# Altium integrated library Renesas Standard Linear.IntLib: 102 symbols (part 3 of 3)
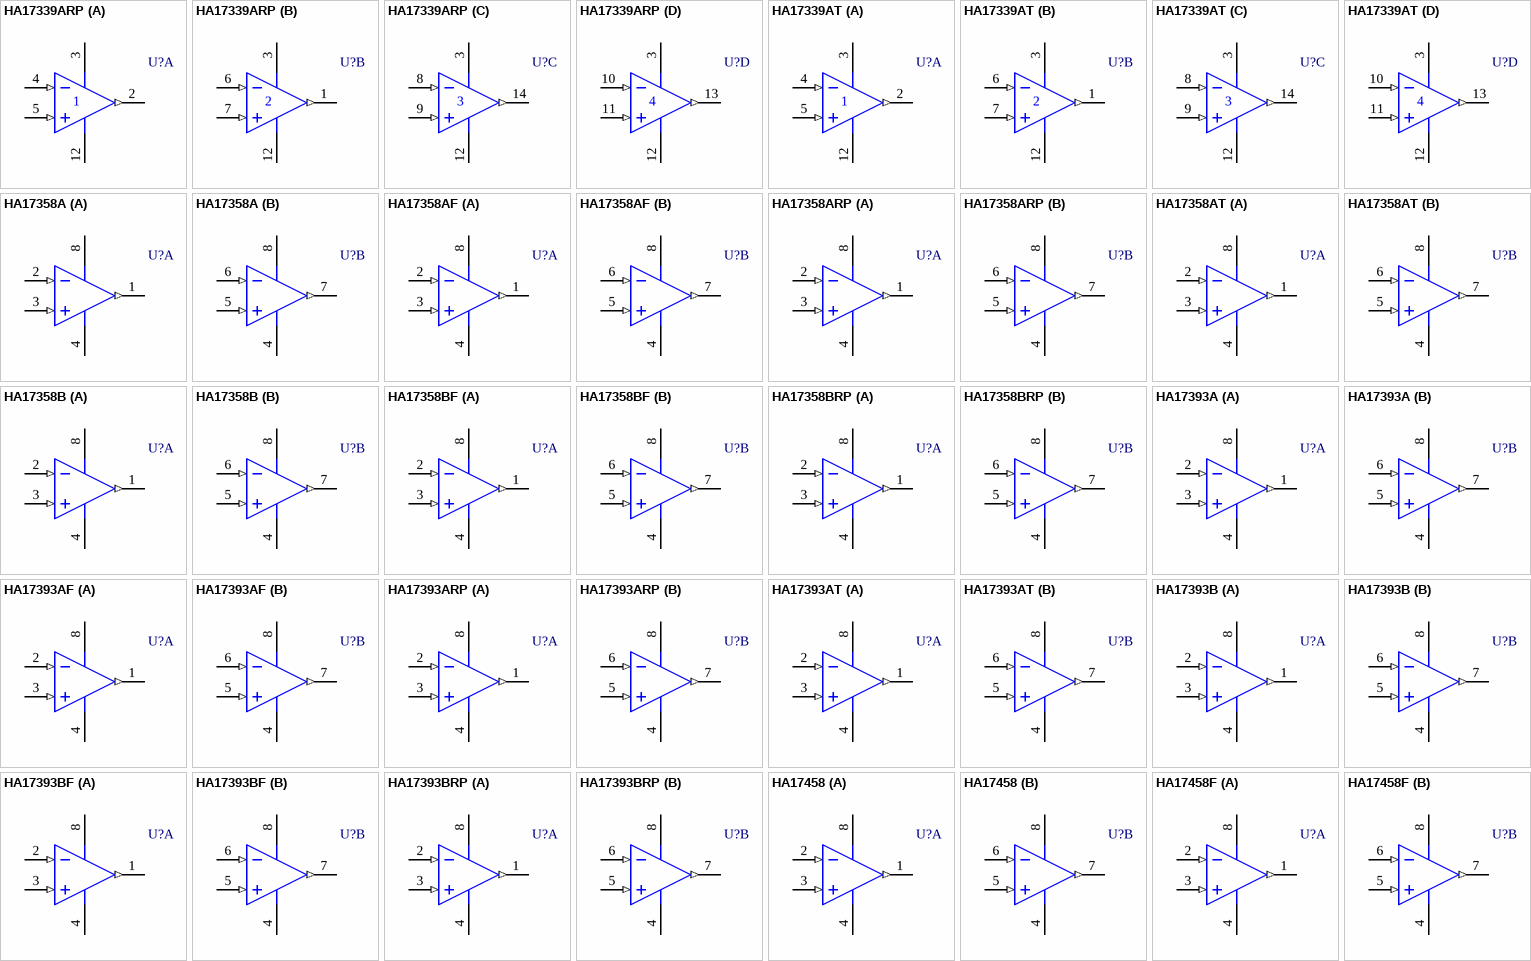
[diagram p7: symbols HA17339ARP to HA17458F]

## HA17458F
designator U?
Dual Bipolar Operational Amplifiers, Standard, VDD (+/-18V), 20 to +75°C, 8-Pin SOP; Published: 5-Feb-2010; DatasheetVersion: Rev.1.00, Jun-2005; PackageVersion: Sep-2005; PackageReference: PRSP0008DE-B; Publisher: Altium Limited; PackageDescription: 8-Pin Plastic Small Outline Package 1.27 mm Pitch; Code_JEITA: P-SOP8-4.4x4.85-1.27; ComponentLink1Description: Manufacturer Link; ComponentLink1URL: http://sg.renesas.com/fmwk.jsp?cnt=standard_linear_landing.jsp&fp=/products/standard_ic/general_purpose_linear/standard_linear; ComponentLink2Description: Datasheet; ComponentLink2URL: http://documentation.renesas.com/eng/products/linear/rej03d0680_ha17458.pdf; ComponentLink3Description: Packaging Specification; ComponentLink3URL: http://sg.renesas.com/media/products/common_info/package/pdf/ic/code/prsp0008de_b.pdf
footprint PRSP0008DE-B_N (SOP, 8-Leads, Body 4.85x4.4mm, Pitch 1.27mm, IPC Medium Density)
footprint PRSP0008DE-B_L (SOP, 8-Leads, Body 4.85x4.4mm, Pitch 1.27mm, IPC High Density)
footprint PRSP0008DE-B_M (SOP, 8-Leads, Body 4.85x4.4mm, Pitch 1.27mm, IPC Low Density)
pins on every part: 4 VEE (power), 8 VCC (power)
part A pins: 1 OUT (out), 2 IN- (in), 3 IN+ (in)
part B pins: 5 IN+ (in), 6 IN- (in), 7 OUT (out)

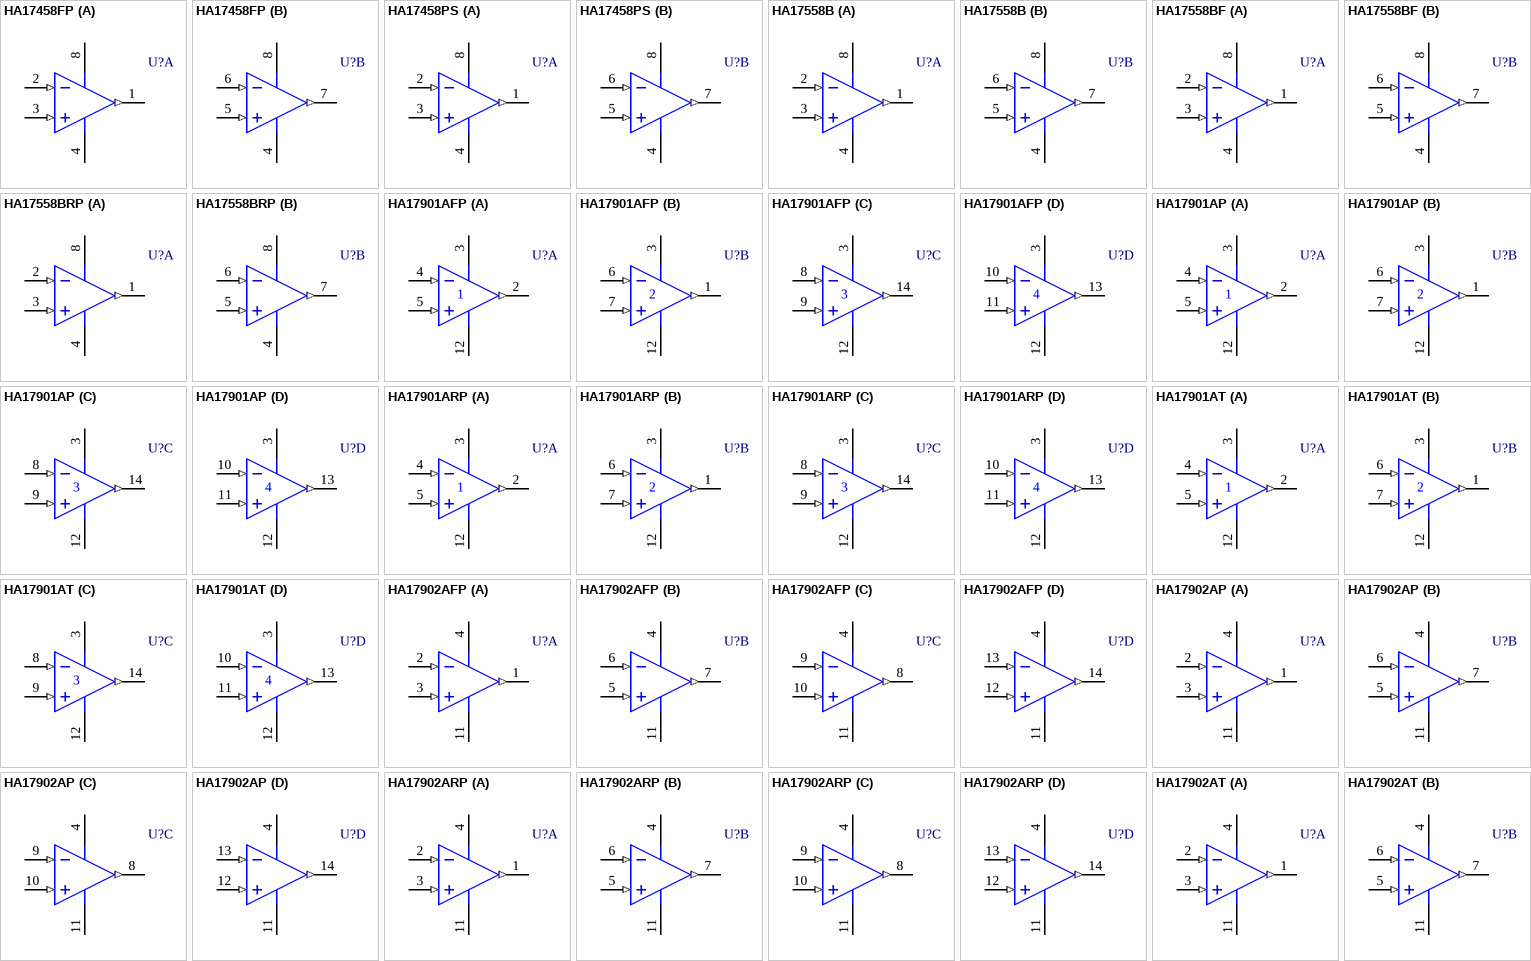
[diagram p4: symbols HA17458FP to HA17902AT]

## HA17458FP
designator U?
Dual Bipolar Operational Amplifiers, Standard, VDD (+/-18V), 20 to +75°C, 8-Pin SOP; Published: 5-Feb-2010; DatasheetVersion: Rev.1.00, Jun-2005; PackageVersion: Sep-2005; PackageReference: PRSP0008DE-B; Publisher: Altium Limited; PackageDescription: 8-Pin Plastic Small Outline Package 1.27 mm Pitch; Code_JEITA: P-SOP8-4.4x4.85-1.27; ComponentLink1Description: Manufacturer Link; ComponentLink1URL: http://sg.renesas.com/fmwk.jsp?cnt=standard_linear_landing.jsp&fp=/products/standard_ic/general_purpose_linear/standard_linear; ComponentLink2Description: Datasheet; ComponentLink2URL: http://documentation.renesas.com/eng/products/linear/rej03d0680_ha17458.pdf; ComponentLink3Description: Packaging Specification; ComponentLink3URL: http://sg.renesas.com/media/products/common_info/package/pdf/ic/code/prsp0008de_b.pdf
footprint PRSP0008DE-B_N (SOP, 8-Leads, Body 4.85x4.4mm, Pitch 1.27mm, IPC Medium Density)
footprint PRSP0008DE-B_L (SOP, 8-Leads, Body 4.85x4.4mm, Pitch 1.27mm, IPC High Density)
footprint PRSP0008DE-B_M (SOP, 8-Leads, Body 4.85x4.4mm, Pitch 1.27mm, IPC Low Density)
pins on every part: 4 VEE (power), 8 VCC (power)
part A pins: 1 OUT (out), 2 IN- (in), 3 IN+ (in)
part B pins: 5 IN+ (in), 6 IN- (in), 7 OUT (out)

## HA17458PS
designator U?
Dual Bipolar Operational Amplifiers, Standard, VDD (+/-18V), 20 to +75°C, 8-Pin DIP; Published: 5-Feb-2010; DatasheetVersion: Rev.1.00, Jun-2005; PackageVersion: Sep-2005; PackageReference: PRDP0008AF-B; Publisher: Altium Limited; PackageDescription: 8-Pin Plastic DIP, 9.6 x 6.3 mm Body, 7.62 mm Row Spacing, Pitch 2.54 mm; Code_JEITA: P-DIP8-6.3x9.6-2.54; ComponentLink1Description: Manufacturer Link; ComponentLink1URL: http://sg.renesas.com/fmwk.jsp?cnt=standard_linear_landing.jsp&fp=/products/standard_ic/general_purpose_linear/standard_linear; ComponentLink2Description: Datasheet; ComponentLink2URL: http://documentation.renesas.com/eng/products/linear/rej03d0680_ha17458.pdf; ComponentLink3Description: Packaging Specification; ComponentLink3URL: http://sg.renesas.com/media/products/common_info/package/pdf/ic/code/prdp0008af_b.pdf
footprint PRDP0008AF-B (DIP, 8-Leads, Row Spacing 7.62mm, Pitch 2.54mm, Body 9.6x6.3mm)
pins on every part: 4 VEE (power), 8 VCC (power)
part A pins: 1 OUT (out), 2 IN- (in), 3 IN+ (in)
part B pins: 5 IN+ (in), 6 IN- (in), 7 OUT (out)

## HA17558B
designator U?
Dual Bipolar Operational Amplifiers, Low noise, VDD (+/-18V), 40 to +85°C, 8-Pin DIP; Published: 5-Feb-2010; DatasheetVersion: Rev.2.00, Dec-2008; PackageVersion: Sep-2005; PackageReference: PRDP0008AF-B; Publisher: Altium Limited; PackageDescription: 8-Pin Plastic DIP, 9.6 x 6.3 mm Body, 7.62 mm Row Spacing, Pitch 2.54 mm; Code_JEITA: P-DIP8-6.3x9.6-2.54; ComponentLink1Description: Manufacturer Link; ComponentLink1URL: http://sg.renesas.com/fmwk.jsp?cnt=standard_linear_landing.jsp&fp=/products/standard_ic/general_purpose_linear/standard_linear; ComponentLink2Description: Datasheet; ComponentLink2URL: http://documentation.renesas.com/eng/products/linear/rea03d0003_ha17558bds.pdf; ComponentLink3Description: Packaging Specification; ComponentLink3URL: http://sg.renesas.com/media/products/common_info/package/pdf/ic/code/prdp0008af_b.pdf
footprint PRDP0008AF-B (DIP, 8-Leads, Row Spacing 7.62mm, Pitch 2.54mm, Body 9.6x6.3mm)
pins on every part: 4 VEE (power), 8 VCC (power)
part A pins: 1 OUT (out), 2 IN- (in), 3 IN+ (in)
part B pins: 5 IN+ (in), 6 IN- (in), 7 OUT (out)

## HA17558BF
designator U?
Dual Bipolar Operational Amplifiers, Low noise, VDD (+/-18V), 40 to +85°C, 8-Pin SOP; Published: 5-Feb-2010; DatasheetVersion: Rev.2.00, Dec-2008; PackageVersion: Sep-2005; PackageReference: PRSP0008DE-B; Publisher: Altium Limited; PackageDescription: 8-Pin Plastic Small Outline Package 1.27 mm Pitch; Code_JEITA: P-SOP8-4.4x4.85-1.27; ComponentLink1Description: Manufacturer Link; ComponentLink1URL: http://sg.renesas.com/fmwk.jsp?cnt=standard_linear_landing.jsp&fp=/products/standard_ic/general_purpose_linear/standard_linear; ComponentLink2Description: Datasheet; ComponentLink2URL: http://documentation.renesas.com/eng/products/linear/rea03d0003_ha17558bds.pdf; ComponentLink3Description: Packaging Specification; ComponentLink3URL: http://sg.renesas.com/media/products/common_info/package/pdf/ic/code/prsp0008de_b.pdf
footprint PRSP0008DE-B_N (SOP, 8-Leads, Body 4.85x4.4mm, Pitch 1.27mm, IPC Medium Density)
footprint PRSP0008DE-B_L (SOP, 8-Leads, Body 4.85x4.4mm, Pitch 1.27mm, IPC High Density)
footprint PRSP0008DE-B_M (SOP, 8-Leads, Body 4.85x4.4mm, Pitch 1.27mm, IPC Low Density)
pins on every part: 4 VEE (power), 8 VCC (power)
part A pins: 1 OUT (out), 2 IN- (in), 3 IN+ (in)
part B pins: 5 IN+ (in), 6 IN- (in), 7 OUT (out)

## HA17558BRP
designator U?
Dual Bipolar Operational Amplifiers, Low noise, VDD (+/-18V), 40 to +85°C, 8-Pin SOP; Published: 5-Feb-2010; DatasheetVersion: Rev.2.00, Dec-2008; PackageVersion: Sep-2005; PackageReference: PRSP0008DD-C; Publisher: Altium Limited; PackageDescription: 8-Pin Plastic Small Outline Integrated Circuit 1.27 mm Pitch; Code_JEITA: P-SOP8-3.95x4.9-1.27; Code_IPC: SOIC127P600-8; ComponentLink1Description: Manufacturer Link; ComponentLink1URL: http://sg.renesas.com/fmwk.jsp?cnt=standard_linear_landing.jsp&fp=/products/standard_ic/general_purpose_linear/standard_linear; ComponentLink2Description: Datasheet; ComponentLink2URL: http://documentation.renesas.com/eng/products/linear/rea03d0003_ha17558bds.pdf; ComponentLink3Description: Packaging Specification; ComponentLink3URL: http://sg.renesas.com/media/products/common_info/package/pdf/ic/code/prsp0008dd_c.pdf
footprint PRSP0008DD-C_N (SOIC, 8-Leads, Body 4.9x3.95mm, Pitch 1.27mm, IPC Medium Density)
footprint PRSP0008DD-C_L (SOIC, 8-Leads, Body 4.9x3.95mm, Pitch 1.27mm, IPC High Density)
footprint PRSP0008DD-C_M (SOIC, 8-Leads, Body 4.9x3.95mm, Pitch 1.27mm, IPC Low Density)
pins on every part: 4 VEE (power), 8 VCC (power)
part A pins: 1 OUT (out), 2 IN- (in), 3 IN+ (in)
part B pins: 5 IN+ (in), 6 IN- (in), 7 OUT (out)

## HA17901AFP
designator U?
Quad Bipolar Voltage Comparator, RF noise improved, -40 to +85°C, 14-Pin SOP; Published: 5-Feb-2010; DatasheetVersion: Rev.1.00, Mar-2006; PackageVersion: Sep-2005; PackageReference: PRSP0014DF-B; Publisher: Altium Limited; PackageDescription: 14-Pin Plastic Small Outline Package, 10.06 x 5.5 mm Body, 1.27 mm Pitch; Code_JEITA: P-SOP14-5.5x10.06-1.27; ComponentLink1Description: Manufacturer Link; ComponentLink1URL: http://sg.renesas.com/fmwk.jsp?cnt=standard_linear_landing.jsp&fp=/products/standard_ic/general_purpose_linear/standard_linear; ComponentLink2Description: Datasheet; ComponentLink2URL: http://documentation.renesas.com/eng/products/linear/rej03d0806_ha17901ads.pdf; ComponentLink3Description: Packaging Specification; ComponentLink3URL: http://sg.renesas.com/media/products/common_info/package/pdf/ic/code/prsp0014df_b.pdf
footprint PRSP0014DF-B_N (SOP, 14-Leads, Body 10.06x5.5mm, Pitch 1.27mm, IPC Medium Density)
footprint PRSP0014DF-B_L (SOP, 14-Leads, Body 10.06x5.5mm, Pitch 1.27mm, IPC High Density)
footprint PRSP0014DF-B_M (SOP, 14-Leads, Body 10.06x5.5mm, Pitch 1.27mm, IPC Low Density)
pins on every part: 3 VCC (power), 12 GND (power)
part A pins: 2 OUT (out), 4 IN- (in), 5 IN+ (in)
part B pins: 1 OUT (out), 6 IN- (in), 7 IN+ (in)
part C pins: 8 IN- (in), 9 IN+ (in), 14 OUT (out)
part D pins: 10 IN- (in), 11 IN+ (in), 13 OUT (out)

## HA17901AP
designator U?
Quad Bipolar Voltage Comparator, RF noise improved, -40 to +85°C, 14-Pin DIP; Published: 5-Feb-2010; DatasheetVersion: Rev.1.00, Mar-2006; PackageVersion: Sep-2005; PackageReference: PRDP0014AB-B; Publisher: Altium Limited; PackageDescription: 14-Pin Plastic DIP, 19.2 x 6.3 mm Body, 7.62 mm Row Spacing, Pitch 2.54 mm; Code_JEITA: P-DIP14-6.3x19.2-2.54; ComponentLink1Description: Manufacturer Link; ComponentLink1URL: http://sg.renesas.com/fmwk.jsp?cnt=standard_linear_landing.jsp&fp=/products/standard_ic/general_purpose_linear/standard_linear; ComponentLink2Description: Datasheet; ComponentLink2URL: http://documentation.renesas.com/eng/products/linear/rej03d0806_ha17901ads.pdf; ComponentLink3Description: Packaging Specification; ComponentLink3URL: http://sg.renesas.com/media/products/common_info/package/pdf/ic/code/prdp0014ab_b.pdf
footprint PRDP0014AB-B (DIP, 14-Leads, Row Spacing 7.62mm, Pitch 2.54mm, Body 19.2x6.3mm)
pins on every part: 3 VCC (power), 12 GND (power)
part A pins: 2 OUT (out), 4 IN- (in), 5 IN+ (in)
part B pins: 1 OUT (out), 6 IN- (in), 7 IN+ (in)
part C pins: 8 IN- (in), 9 IN+ (in), 14 OUT (out)
part D pins: 10 IN- (in), 11 IN+ (in), 13 OUT (out)

## HA17901ARP
designator U?
Quad Bipolar Voltage Comparator, RF noise improved, -40 to +85°C, 14-Pin SOP; Published: 5-Feb-2010; DatasheetVersion: Rev.1.00, Mar-2006; PackageVersion: Sep-2005; PackageReference: PRSP0014DE-A; Publisher: Altium Limited; PackageDescription: 14-Pin Plastic Small Outline Integrated Circuit 8.65 x 3.95 mm Body, 1.27 mm Pitch; Code_JEITA: P-SOP14-3.95x8.65-1.27; ComponentLink1Description: Manufacturer Link; ComponentLink1URL: http://sg.renesas.com/fmwk.jsp?cnt=standard_linear_landing.jsp&fp=/products/standard_ic/general_purpose_linear/standard_linear; ComponentLink2Description: Datasheet; ComponentLink2URL: http://documentation.renesas.com/eng/products/linear/rej03d0806_ha17901ads.pdf; ComponentLink3Description: Packaging Specification; ComponentLink3URL: http://sg.renesas.com/media/products/common_info/package/pdf/ic/code/prsp0014de_a.pdf
footprint PRSP0014DE-A_N (SOIC, 14-Leads, Body 8.65x3.95mm, Pitch 1.27mm, IPC Medium Density)
footprint PRSP0014DE-A_L (SOIC, 14-Leads, Body 8.65x3.95mm, Pitch 1.27mm, IPC High Density)
footprint PRSP0014DE-A_M (SOIC, 14-Leads, Body 8.65x3.95mm, Pitch 1.27mm, IPC Low Density)
pins on every part: 3 VCC (power), 12 GND (power)
part A pins: 2 OUT (out), 4 IN- (in), 5 IN+ (in)
part B pins: 1 OUT (out), 6 IN- (in), 7 IN+ (in)
part C pins: 8 IN- (in), 9 IN+ (in), 14 OUT (out)
part D pins: 10 IN- (in), 11 IN+ (in), 13 OUT (out)

## HA17901AT
designator U?
Quad Bipolar Voltage Comparator, RF noise improved, -40 to +85°C, 14-Pin TSSOP; Published: 5-Feb-2010; DatasheetVersion: Rev.1.00, Mar-2006; PackageVersion: Sep-2005; PackageReference: PTSP0014JA-B; Publisher: Altium Limited; PackageDescription: 14-Pin Plastic Thin Small Outline Package 0.65 mm Pitch; Code_JEITA: P-TSSOP14-4.4x5-0.65; ComponentLink1Description: Manufacturer Link; ComponentLink1URL: http://sg.renesas.com/fmwk.jsp?cnt=standard_linear_landing.jsp&fp=/products/standard_ic/general_purpose_linear/standard_linear; ComponentLink2Description: Datasheet; ComponentLink2URL: http://documentation.renesas.com/eng/products/linear/rej03d0806_ha17901ads.pdf; ComponentLink3Description: Packaging Specification; ComponentLink3URL: http://sg.renesas.com/media/products/common_info/package/pdf/ic/code/ptsp0014ja_b.pdf
footprint PTSP0014JA-B_N (TSOP, 14-Leads, Body 5x4.4mm, Pitch 0.65mm, IPC Medium Density)
footprint PTSP0014JA-B_L (TSOP, 14-Leads, Body 5x4.4mm, Pitch 0.65mm, IPC High Density)
footprint PTSP0014JA-B_M (TSOP, 14-Leads, Body 5x4.4mm, Pitch 0.65mm, IPC Low Density)
pins on every part: 3 VCC (power), 12 GND (power)
part A pins: 2 OUT (out), 4 IN- (in), 5 IN+ (in)
part B pins: 1 OUT (out), 6 IN- (in), 7 IN+ (in)
part C pins: 8 IN- (in), 9 IN+ (in), 14 OUT (out)
part D pins: 10 IN- (in), 11 IN+ (in), 13 OUT (out)

## HA17902AFP
designator U?
Quad Bipolar Operational Amplifiers, RF noise improved, Single Power supply available, 40 to +85°C, 14-Pin SOP; Published: 5-Feb-2010; DatasheetVersion: Rev.2.00, Mar-2006; PackageVersion: Sep-2005; PackageReference: PRSP0014DF-B; Publisher: Altium Limited; PackageDescription: 14-Pin Plastic Small Outline Package, 10.06 x 5.5 mm Body, 1.27 mm Pitch; Code_JEITA: P-SOP14-5.5x10.06-1.27; ComponentLink1Description: Manufacturer Link; ComponentLink1URL: http://sg.renesas.com/fmwk.jsp?cnt=standard_linear_landing.jsp&fp=/products/standard_ic/general_purpose_linear/standard_linear; ComponentLink2Description: Datasheet; ComponentLink2URL: http://documentation.renesas.com/eng/products/linear/rej03d0686_ha17902a.pdf; ComponentLink3Description: Packaging Specification; ComponentLink3URL: http://sg.renesas.com/media/products/common_info/package/pdf/ic/code/prsp0014df_b.pdf
footprint PRSP0014DF-B_N (SOP, 14-Leads, Body 10.06x5.5mm, Pitch 1.27mm, IPC Medium Density)
footprint PRSP0014DF-B_L (SOP, 14-Leads, Body 10.06x5.5mm, Pitch 1.27mm, IPC High Density)
footprint PRSP0014DF-B_M (SOP, 14-Leads, Body 10.06x5.5mm, Pitch 1.27mm, IPC Low Density)
pins on every part: 4 VCC (power), 11 VEE (power)
part A pins: 1 OUT (out), 2 IN- (in), 3 IN+ (in)
part B pins: 5 IN+ (in), 6 IN- (in), 7 OUT (out)
part C pins: 8 OUT (out), 9 IN- (in), 10 IN+ (in)
part D pins: 12 IN+ (in), 13 IN- (in), 14 OUT (out)

## HA17902AP
designator U?
Quad Bipolar Operational Amplifiers, RF noise improved, Single Power supply available, 40 to +85°C, 14-Pin DIP; Published: 5-Feb-2010; DatasheetVersion: Rev.2.00, Mar-2006; PackageVersion: Sep-2005; PackageReference: PRDP0014AB-B; Publisher: Altium Limited; PackageDescription: 14-Pin Plastic DIP, 19.2 x 6.3 mm Body, 7.62 mm Row Spacing, Pitch 2.54 mm; Code_JEITA: P-DIP14-6.3x19.2-2.54; ComponentLink1Description: Manufacturer Link; ComponentLink1URL: http://sg.renesas.com/fmwk.jsp?cnt=standard_linear_landing.jsp&fp=/products/standard_ic/general_purpose_linear/standard_linear; ComponentLink2Description: Datasheet; ComponentLink2URL: http://documentation.renesas.com/eng/products/linear/rej03d0686_ha17902a.pdf; ComponentLink3Description: Packaging Specification; ComponentLink3URL: http://sg.renesas.com/media/products/common_info/package/pdf/ic/code/prdp0014ab_b.pdf
footprint PRDP0014AB-B (DIP, 14-Leads, Row Spacing 7.62mm, Pitch 2.54mm, Body 19.2x6.3mm)
pins on every part: 4 VCC (power), 11 VEE (power)
part A pins: 1 OUT (out), 2 IN- (in), 3 IN+ (in)
part B pins: 5 IN+ (in), 6 IN- (in), 7 OUT (out)
part C pins: 8 OUT (out), 9 IN- (in), 10 IN+ (in)
part D pins: 12 IN+ (in), 13 IN- (in), 14 OUT (out)

## HA17902ARP
designator U?
Quad Bipolar Operational Amplifiers, RF noise improved, Single Power supply available, 40 to +85°C, 14-Pin SOP; Published: 5-Feb-2010; DatasheetVersion: Rev.2.00, Mar-2006; PackageVersion: Sep-2005; PackageReference: PRSP0014DE-A; Publisher: Altium Limited; PackageDescription: 14-Pin Plastic Small Outline Integrated Circuit 8.65 x 3.95 mm Body, 1.27 mm Pitch; Code_JEITA: P-SOP14-3.95x8.65-1.27; ComponentLink1Description: Manufacturer Link; ComponentLink1URL: http://sg.renesas.com/fmwk.jsp?cnt=standard_linear_landing.jsp&fp=/products/standard_ic/general_purpose_linear/standard_linear; ComponentLink2Description: Datasheet; ComponentLink2URL: http://documentation.renesas.com/eng/products/linear/rej03d0686_ha17902a.pdf; ComponentLink3Description: Packaging Specification; ComponentLink3URL: http://sg.renesas.com/media/products/common_info/package/pdf/ic/code/prsp0014de_a.pdf
footprint PRSP0014DE-A_N (SOIC, 14-Leads, Body 8.65x3.95mm, Pitch 1.27mm, IPC Medium Density)
footprint PRSP0014DE-A_L (SOIC, 14-Leads, Body 8.65x3.95mm, Pitch 1.27mm, IPC High Density)
footprint PRSP0014DE-A_M (SOIC, 14-Leads, Body 8.65x3.95mm, Pitch 1.27mm, IPC Low Density)
pins on every part: 4 VCC (power), 11 VEE (power)
part A pins: 1 OUT (out), 2 IN- (in), 3 IN+ (in)
part B pins: 5 IN+ (in), 6 IN- (in), 7 OUT (out)
part C pins: 8 OUT (out), 9 IN- (in), 10 IN+ (in)
part D pins: 12 IN+ (in), 13 IN- (in), 14 OUT (out)

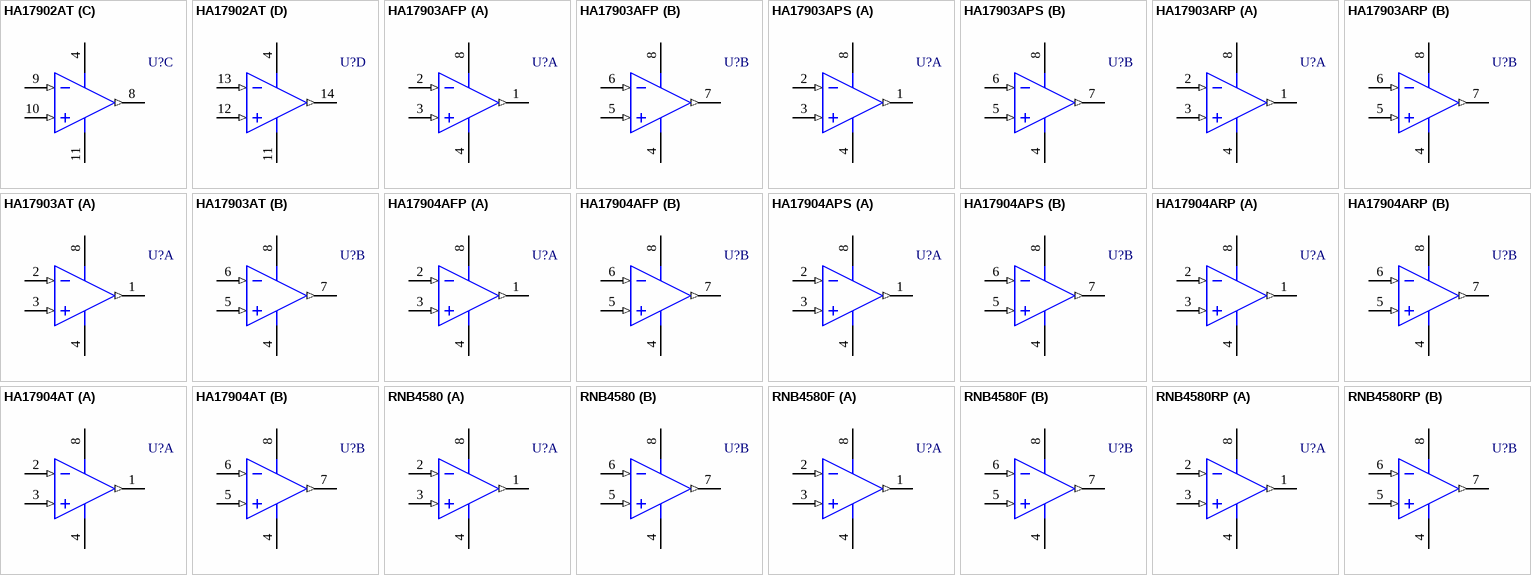
[diagram p5: symbols HA17902AT to RNB4580RP]

## HA17902AT
designator U?
Quad Bipolar Operational Amplifiers, RF noise improved, Single Power supply available, 40 to +85°C, 14-Pin TSSOP; Published: 5-Feb-2010; DatasheetVersion: Rev.2.00, Mar-2006; PackageVersion: Sep-2005; PackageReference: PTSP0014JA-B; Publisher: Altium Limited; PackageDescription: 14-Pin Plastic Thin Small Outline Package 0.65 mm Pitch; Code_JEITA: P-TSSOP14-4.4x5-0.65; ComponentLink1Description: Manufacturer Link; ComponentLink1URL: http://sg.renesas.com/fmwk.jsp?cnt=standard_linear_landing.jsp&fp=/products/standard_ic/general_purpose_linear/standard_linear; ComponentLink2Description: Datasheet; ComponentLink2URL: http://documentation.renesas.com/eng/products/linear/rej03d0686_ha17902a.pdf; ComponentLink3Description: Packaging Specification; ComponentLink3URL: http://sg.renesas.com/media/products/common_info/package/pdf/ic/code/ptsp0014ja_b.pdf
footprint PTSP0014JA-B_N (TSOP, 14-Leads, Body 5x4.4mm, Pitch 0.65mm, IPC Medium Density)
footprint PTSP0014JA-B_L (TSOP, 14-Leads, Body 5x4.4mm, Pitch 0.65mm, IPC High Density)
footprint PTSP0014JA-B_M (TSOP, 14-Leads, Body 5x4.4mm, Pitch 0.65mm, IPC Low Density)
pins on every part: 4 VCC (power), 11 VEE (power)
part A pins: 1 OUT (out), 2 IN- (in), 3 IN+ (in)
part B pins: 5 IN+ (in), 6 IN- (in), 7 OUT (out)
part C pins: 8 OUT (out), 9 IN- (in), 10 IN+ (in)
part D pins: 12 IN+ (in), 13 IN- (in), 14 OUT (out)

## HA17903AFP
designator U?
Dual Bipolar Voltage Comparator, RF noise improved, -40 to +85°C, 8-Pin SOP; Published: 5-Feb-2010; DatasheetVersion: Rev.1.00, Mar-2005; PackageVersion: Sep-2005; PackageReference: PRSP0008DE-B; Publisher: Altium Limited; PackageDescription: 8-Pin Plastic Small Outline Package 1.27 mm Pitch; Code_JEITA: P-SOP8-4.4x4.85-1.27; ComponentLink1Description: Manufacturer Link; ComponentLink1URL: http://sg.renesas.com/fmwk.jsp?cnt=standard_linear_landing.jsp&fp=/products/standard_ic/general_purpose_linear/standard_linear; ComponentLink2Description: Datasheet; ComponentLink2URL: http://documentation.renesas.com/eng/products/linear/rej03d0807_ha17903ads.pdf; ComponentLink3Description: Packaging Specification; ComponentLink3URL: http://sg.renesas.com/media/products/common_info/package/pdf/ic/code/prsp0008de_b.pdf
footprint PRSP0008DE-B_N (SOP, 8-Leads, Body 4.85x4.4mm, Pitch 1.27mm, IPC Medium Density)
footprint PRSP0008DE-B_L (SOP, 8-Leads, Body 4.85x4.4mm, Pitch 1.27mm, IPC High Density)
footprint PRSP0008DE-B_M (SOP, 8-Leads, Body 4.85x4.4mm, Pitch 1.27mm, IPC Low Density)
pins on every part: 4 VSS (power), 8 VDD (power)
part A pins: 1 OUT (out), 2 IN- (in), 3 IN+ (in)
part B pins: 5 IN+ (in), 6 IN- (in), 7 OUT (out)

## HA17903APS
designator U?
Dual Bipolar Voltage Comparator, RF noise improved, -40 to +85°C, 8-Pin DIP; Published: 5-Feb-2010; DatasheetVersion: Rev.1.00, Mar-2005; PackageVersion: Sep-2005; PackageReference: PRDP0008AF-B; Publisher: Altium Limited; PackageDescription: 8-Pin Plastic DIP, 9.6 x 6.3 mm Body, 7.62 mm Row Spacing, Pitch 2.54 mm; Code_JEITA: P-DIP8-6.3x9.6-2.54; ComponentLink1Description: Manufacturer Link; ComponentLink1URL: http://sg.renesas.com/fmwk.jsp?cnt=standard_linear_landing.jsp&fp=/products/standard_ic/general_purpose_linear/standard_linear; ComponentLink2Description: Datasheet; ComponentLink2URL: http://documentation.renesas.com/eng/products/linear/rej03d0807_ha17903ads.pdf; ComponentLink3Description: Packaging Specification; ComponentLink3URL: http://sg.renesas.com/media/products/common_info/package/pdf/ic/code/prdp0008af_b.pdf
footprint PRDP0008AF-B (DIP, 8-Leads, Row Spacing 7.62mm, Pitch 2.54mm, Body 9.6x6.3mm)
pins on every part: 4 VSS (power), 8 VDD (power)
part A pins: 1 OUT (out), 2 IN- (in), 3 IN+ (in)
part B pins: 5 IN+ (in), 6 IN- (in), 7 OUT (out)

## HA17903ARP
designator U?
Dual Bipolar Voltage Comparator, RF noise improved, -40 to +85°C, 8-Pin SOP; Published: 5-Feb-2010; DatasheetVersion: Rev.1.00, Mar-2005; PackageVersion: Sep-2005; PackageReference: PRSP0008DD-C; Publisher: Altium Limited; PackageDescription: 8-Pin Plastic Small Outline Integrated Circuit 1.27 mm Pitch; Code_JEITA: P-SOP8-3.95x4.9-1.27; Code_IPC: SOIC127P600-8; ComponentLink1Description: Manufacturer Link; ComponentLink1URL: http://sg.renesas.com/fmwk.jsp?cnt=standard_linear_landing.jsp&fp=/products/standard_ic/general_purpose_linear/standard_linear; ComponentLink2Description: Datasheet; ComponentLink2URL: http://documentation.renesas.com/eng/products/linear/rej03d0807_ha17903ads.pdf; ComponentLink3Description: Packaging Specification; ComponentLink3URL: http://sg.renesas.com/media/products/common_info/package/pdf/ic/code/prsp0008dd_c.pdf
footprint PRSP0008DD-C_N (SOIC, 8-Leads, Body 4.9x3.95mm, Pitch 1.27mm, IPC Medium Density)
footprint PRSP0008DD-C_L (SOIC, 8-Leads, Body 4.9x3.95mm, Pitch 1.27mm, IPC High Density)
footprint PRSP0008DD-C_M (SOIC, 8-Leads, Body 4.9x3.95mm, Pitch 1.27mm, IPC Low Density)
pins on every part: 4 VSS (power), 8 VDD (power)
part A pins: 1 OUT (out), 2 IN- (in), 3 IN+ (in)
part B pins: 5 IN+ (in), 6 IN- (in), 7 OUT (out)

## HA17903AT
designator U?
Dual Bipolar Voltage Comparator, RF noise improved, -40 to +85°C, 8-Pin TSSOP; Published: 5-Feb-2010; DatasheetVersion: Rev.1.00, Mar-2005; PackageVersion: Sep-2005; PackageReference: PTSP0008JC-B; Publisher: Altium Limited; PackageDescription: 8-Pin Plastic Thin Small Outline Package 0.65 mm Pitch (TSSOP-8); Code_JEITA: P-TSSOP8-4.4x3-0.65; ComponentLink1Description: Manufacturer Link; ComponentLink1URL: http://sg.renesas.com/fmwk.jsp?cnt=standard_linear_landing.jsp&fp=/products/standard_ic/general_purpose_linear/standard_linear; ComponentLink2Description: Datasheet; ComponentLink2URL: http://documentation.renesas.com/eng/products/linear/rej03d0807_ha17903ads.pdf; ComponentLink3Description: Packaging Specification; ComponentLink3URL: http://sg.renesas.com/media/products/common_info/package/pdf/ic/code/ptsp0008jc_b.pdf
footprint PTSP0008JC-B_N (TSOP, 8-Leads, Body 3x4.4mm, Pitch 0.65mm, IPC Medium Density)
footprint PTSP0008JC-B_L (TSOP, 8-Leads, Body 3x4.4mm, Pitch 0.65mm, IPC High Density)
footprint PTSP0008JC-B_M (TSOP, 8-Leads, Body 3x4.4mm, Pitch 0.65mm, IPC Low Density)
pins on every part: 4 VSS (power), 8 VDD (power)
part A pins: 1 OUT (out), 2 IN- (in), 3 IN+ (in)
part B pins: 5 IN+ (in), 6 IN- (in), 7 OUT (out)

## HA17904AFP
designator U?
Dual Bipolar Operational Amplifiers, RF noise improved, Single Power supply available, 40 to +85°C, 8-Pin SOP; Published: 5-Feb-2010; DatasheetVersion: Rev.2.00, Mar-2006; PackageVersion: Sep-2005; PackageReference: PRSP0008DE-B; Publisher: Altium Limited; PackageDescription: 8-Pin Plastic Small Outline Package 1.27 mm Pitch; Code_JEITA: P-SOP8-4.4x4.85-1.27; ComponentLink1Description: Manufacturer Link; ComponentLink1URL: http://sg.renesas.com/fmwk.jsp?cnt=standard_linear_landing.jsp&fp=/products/standard_ic/general_purpose_linear/standard_linear; ComponentLink2Description: Datasheet; ComponentLink2URL: http://documentation.renesas.com/eng/products/linear/rej03d0689_ha17904a.pdf; ComponentLink3Description: Packaging Specification; ComponentLink3URL: http://sg.renesas.com/media/products/common_info/package/pdf/ic/code/prsp0008de_b.pdf
footprint PRSP0008DE-B_N (SOP, 8-Leads, Body 4.85x4.4mm, Pitch 1.27mm, IPC Medium Density)
footprint PRSP0008DE-B_L (SOP, 8-Leads, Body 4.85x4.4mm, Pitch 1.27mm, IPC High Density)
footprint PRSP0008DE-B_M (SOP, 8-Leads, Body 4.85x4.4mm, Pitch 1.27mm, IPC Low Density)
pins on every part: 4 GND (power), 8 VCC (power)
part A pins: 1 OUT (out), 2 IN- (in), 3 IN+ (in)
part B pins: 5 IN+ (in), 6 IN- (in), 7 OUT (out)

## HA17904APS
designator U?
Dual Bipolar Operational Amplifiers, RF noise improved, Single Power supply available, 40 to +85°C, 8-Pin DIP; Published: 5-Feb-2010; DatasheetVersion: Rev.2.00, Mar-2006; PackageVersion: Sep-2005; PackageReference: PRDP0008AF-B; Publisher: Altium Limited; PackageDescription: 8-Pin Plastic DIP, 9.6 x 6.3 mm Body, 7.62 mm Row Spacing, Pitch 2.54 mm; Code_JEITA: P-DIP8-6.3x9.6-2.54; ComponentLink1Description: Manufacturer Link; ComponentLink1URL: http://sg.renesas.com/fmwk.jsp?cnt=standard_linear_landing.jsp&fp=/products/standard_ic/general_purpose_linear/standard_linear; ComponentLink2Description: Datasheet; ComponentLink2URL: http://documentation.renesas.com/eng/products/linear/rej03d0689_ha17904a.pdf; ComponentLink3Description: Packaging Specification; ComponentLink3URL: http://sg.renesas.com/media/products/common_info/package/pdf/ic/code/prdp0008af_b.pdf
footprint PRDP0008AF-B (DIP, 8-Leads, Row Spacing 7.62mm, Pitch 2.54mm, Body 9.6x6.3mm)
pins on every part: 4 GND (power), 8 VCC (power)
part A pins: 1 OUT (out), 2 IN- (in), 3 IN+ (in)
part B pins: 5 IN+ (in), 6 IN- (in), 7 OUT (out)

## HA17904ARP
designator U?
Dual Bipolar Operational Amplifiers, RF noise improved, Single Power supply available, 40 to +85°C, 8-Pin SOP; Published: 5-Feb-2010; DatasheetVersion: Rev.2.00, Mar-2006; PackageVersion: Sep-2005; PackageReference: PRSP0008DD-C; Publisher: Altium Limited; PackageDescription: 8-Pin Plastic Small Outline Integrated Circuit 1.27 mm Pitch; Code_JEITA: P-SOP8-3.95x4.9-1.27; Code_IPC: SOIC127P600-8; ComponentLink1Description: Manufacturer Link; ComponentLink1URL: http://sg.renesas.com/fmwk.jsp?cnt=standard_linear_landing.jsp&fp=/products/standard_ic/general_purpose_linear/standard_linear; ComponentLink2Description: Datasheet; ComponentLink2URL: http://documentation.renesas.com/eng/products/linear/rej03d0689_ha17904a.pdf; ComponentLink3Description: Packaging Specification; ComponentLink3URL: http://sg.renesas.com/media/products/common_info/package/pdf/ic/code/prsp0008dd_c.pdf
footprint PRSP0008DD-C_N (SOIC, 8-Leads, Body 4.9x3.95mm, Pitch 1.27mm, IPC Medium Density)
footprint PRSP0008DD-C_L (SOIC, 8-Leads, Body 4.9x3.95mm, Pitch 1.27mm, IPC High Density)
footprint PRSP0008DD-C_M (SOIC, 8-Leads, Body 4.9x3.95mm, Pitch 1.27mm, IPC Low Density)
pins on every part: 4 GND (power), 8 VCC (power)
part A pins: 1 OUT (out), 2 IN- (in), 3 IN+ (in)
part B pins: 5 IN+ (in), 6 IN- (in), 7 OUT (out)

## HA17904AT
designator U?
Dual Bipolar Operational Amplifiers, RF noise improved, Single Power supply available, 40 to +85°C, 8-Pin TSSOP; Published: 5-Feb-2010; DatasheetVersion: Rev.2.00, Mar-2006; PackageVersion: Sep-2005; PackageReference: PTSP0008JC-B; Publisher: Altium Limited; PackageDescription: 8-Pin Plastic Thin Small Outline Package 0.65 mm Pitch (TSSOP-8); Code_JEITA: P-TSSOP8-4.4x3-0.65; ComponentLink1Description: Manufacturer Link; ComponentLink1URL: http://sg.renesas.com/fmwk.jsp?cnt=standard_linear_landing.jsp&fp=/products/standard_ic/general_purpose_linear/standard_linear; ComponentLink2Description: Datasheet; ComponentLink2URL: http://documentation.renesas.com/eng/products/linear/rej03d0689_ha17904a.pdf; ComponentLink3Description: Packaging Specification; ComponentLink3URL: http://sg.renesas.com/media/products/common_info/package/pdf/ic/code/ptsp0008jc_b.pdf
footprint PTSP0008JC-B_N (TSOP, 8-Leads, Body 3x4.4mm, Pitch 0.65mm, IPC Medium Density)
footprint PTSP0008JC-B_L (TSOP, 8-Leads, Body 3x4.4mm, Pitch 0.65mm, IPC High Density)
footprint PTSP0008JC-B_M (TSOP, 8-Leads, Body 3x4.4mm, Pitch 0.65mm, IPC Low Density)
pins on every part: 4 GND (power), 8 VCC (power)
part A pins: 1 OUT (out), 2 IN- (in), 3 IN+ (in)
part B pins: 5 IN+ (in), 6 IN- (in), 7 OUT (out)

## RNB4580
designator U?
Dual Bipolar Operational Amplifiers, Low noise High slew rate, VDD (+/-18V), 40 to +85°C, 8-Pin DIP; Published: 5-Feb-2010; DatasheetVersion: Rev.2.00, Dec-2008; PackageVersion: Sep-2005; PackageReference: PRDP0008AF-B; Publisher: Altium Limited; PackageDescription: 8-Pin Plastic DIP, 9.6 x 6.3 mm Body, 7.62 mm Row Spacing, Pitch 2.54 mm; Code_JEITA: P-DIP8-6.3x9.6-2.54; ComponentLink1Description: Manufacturer Link; ComponentLink1URL: http://sg.renesas.com/fmwk.jsp?cnt=standard_linear_landing.jsp&fp=/products/standard_ic/general_purpose_linear/standard_linear; ComponentLink2Description: Datasheet; ComponentLink2URL: http://documentation.renesas.com/eng/products/linear/rea03d0004_rnb4580ds.pdf; ComponentLink3Description: Packaging Specification; ComponentLink3URL: http://sg.renesas.com/media/products/common_info/package/pdf/ic/code/prdp0008af_b.pdf
footprint PRDP0008AF-B (DIP, 8-Leads, Row Spacing 7.62mm, Pitch 2.54mm, Body 9.6x6.3mm)
pins on every part: 4 VEE (power), 8 VCC (power)
part A pins: 1 OUT (out), 2 IN- (in), 3 IN+ (in)
part B pins: 5 IN+ (in), 6 IN- (in), 7 OUT (out)

## RNB4580F
designator U?
Dual Bipolar Operational Amplifiers, Low noise High slew rate, VDD (+/-18V), 40 to +85°C, 8-Pin SOP; Published: 5-Feb-2010; DatasheetVersion: Rev.2.00, Dec-2008; PackageVersion: Sep-2005; PackageReference: PRSP0008DE-B; Publisher: Altium Limited; PackageDescription: 8-Pin Plastic Small Outline Package 1.27 mm Pitch; Code_JEITA: P-SOP8-4.4x4.85-1.27; ComponentLink1Description: Manufacturer Link; ComponentLink1URL: http://sg.renesas.com/fmwk.jsp?cnt=standard_linear_landing.jsp&fp=/products/standard_ic/general_purpose_linear/standard_linear; ComponentLink2Description: Datasheet; ComponentLink2URL: http://documentation.renesas.com/eng/products/linear/rea03d0004_rnb4580ds.pdf; ComponentLink3Description: Packaging Specification; ComponentLink3URL: http://sg.renesas.com/media/products/common_info/package/pdf/ic/code/prsp0008de_b.pdf
footprint PRSP0008DE-B_N (SOP, 8-Leads, Body 4.85x4.4mm, Pitch 1.27mm, IPC Medium Density)
footprint PRSP0008DE-B_L (SOP, 8-Leads, Body 4.85x4.4mm, Pitch 1.27mm, IPC High Density)
footprint PRSP0008DE-B_M (SOP, 8-Leads, Body 4.85x4.4mm, Pitch 1.27mm, IPC Low Density)
pins on every part: 4 VEE (power), 8 VCC (power)
part A pins: 1 OUT (out), 2 IN- (in), 3 IN+ (in)
part B pins: 5 IN+ (in), 6 IN- (in), 7 OUT (out)

## RNB4580RP
designator U?
Dual Bipolar Operational Amplifiers, Low noise High slew rate, VDD (+/-18V), 40 to +85°C, 8-Pin SOP; Published: 5-Feb-2010; DatasheetVersion: Rev.2.00, Dec-2008; PackageVersion: Sep-2005; PackageReference: PRSP0008DD-C; Publisher: Altium Limited; PackageDescription: 8-Pin Plastic Small Outline Integrated Circuit 1.27 mm Pitch; Code_JEITA: P-SOP8-3.95x4.9-1.27; Code_IPC: SOIC127P600-8; ComponentLink1Description: Manufacturer Link; ComponentLink1URL: http://sg.renesas.com/fmwk.jsp?cnt=standard_linear_landing.jsp&fp=/products/standard_ic/general_purpose_linear/standard_linear; ComponentLink2Description: Datasheet; ComponentLink2URL: http://documentation.renesas.com/eng/products/linear/rea03d0004_rnb4580ds.pdf; ComponentLink3Description: Packaging Specification; ComponentLink3URL: http://sg.renesas.com/media/products/common_info/package/pdf/ic/code/prsp0008dd_c.pdf
footprint PRSP0008DD-C_N (SOIC, 8-Leads, Body 4.9x3.95mm, Pitch 1.27mm, IPC Medium Density)
footprint PRSP0008DD-C_L (SOIC, 8-Leads, Body 4.9x3.95mm, Pitch 1.27mm, IPC High Density)
footprint PRSP0008DD-C_M (SOIC, 8-Leads, Body 4.9x3.95mm, Pitch 1.27mm, IPC Low Density)
pins on every part: 4 VEE (power), 8 VCC (power)
part A pins: 1 OUT (out), 2 IN- (in), 3 IN+ (in)
part B pins: 5 IN+ (in), 6 IN- (in), 7 OUT (out)